# EAGLE library part ATTINY102 (library custom)
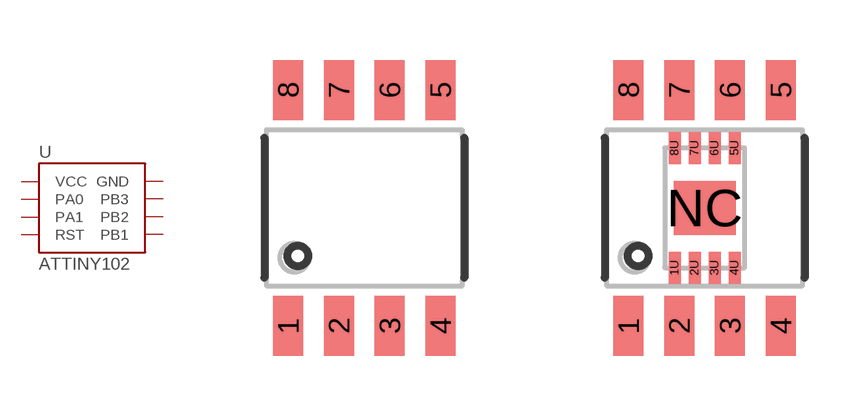
[diagram p120: symbol with the pads of 8-SOIC; footprints 8-SOIC, 8-SOIC_CO_8-UDFN]

Designator prefix -

## ATTINY102SOIC150  [8-SOIC]
1  VCC
2  PA0
3  PA1
4  RST
5  PB1
6  PB2
7  PB3
8  GND

## ATTINY102  [8-SOIC_CO_8-UDFN]
1  VCC
1U  VCC
2  PA0
2U  PA0
3  PA1
3U  PA1
4  RST
4U  RST
5  PB1
5U  PB1
6  PB2
6U  PB2
7  PB3
7U  PB3
8  GND
8U  GND

## Footprint 8-SOIC (pad centres in mm)
smd 0.75 x 1.5: 1 -1.905,-2.95; 2 -0.635,-2.95; 3 0.635,-2.95; 4 1.905,-2.95; 5 1.905,2.95; 6 0.635,2.95; 7 -0.635,2.95; 8 -1.905,2.95

## Footprint 8-SOIC_CO_8-UDFN (pad centres in mm)
smd 0.75 x 1.5: 1 -1.905,-2.95; 2 -0.635,-2.95; 3 0.635,-2.95; 4 1.905,-2.95; 5 1.905,2.95; 6 0.635,2.95; 7 -0.635,2.95; 8 -1.905,2.95
smd 0.3 x 0.8: 1U -0.75,-1.5; 2U -0.25,-1.5; 3U 0.25,-1.5; 4U 0.75,-1.5; 5U 0.75,1.5; 6U 0.25,1.5; 7U -0.25,1.5; 8U -0.75,1.5
smd 1.55 x 1.35: NC 0,0